# Altium integrated library Free Documents.IntLib: 21 symbols
Pins are listed as number, name and electrical type; pins without a type are passive.

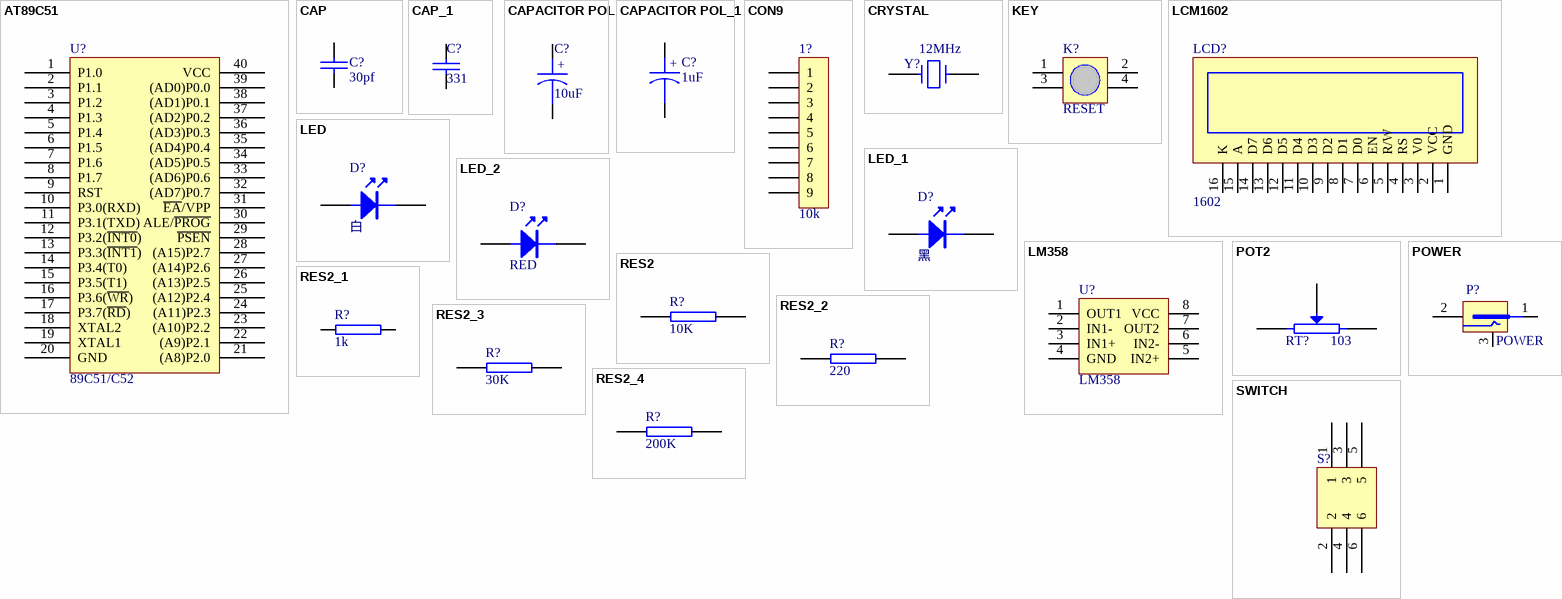
[diagram p0: symbols AT89C51 to SWITCH]

## AT89C51
designator U?, comment 89C51/C52
footprint DIP40
pins: 1 P1.0, 2 P1.1, 3 P1.2, 4 P1.3, 5 P1.4, 6 P1.5, 7 P1.6, 8 P1.7, 9 RST, 10 P3.0(RXD), 11 P3.1(TXD), 12 P3.2(~{INT0}), 13 P3.3(~{INT1}), 14 P3.4(T0), 15 P3.5(T1), 16 P3.6(~{WR}), 17 P3.7(~{RD}), 18 XTAL2, 19 XTAL1, 20 GND, 21 (A8)P2.0, 22 (A9)P2.1, 23 (A10)P2.2, 24 (A11)P2.3, 25 (A12)P2.4, 26 (A13)P2.5, 27 (A14)P2.6, 28 (A15)P2.7, 29 ~{PSEN}, 30 ALE/~{PROG}, 31 ~{EA}/VPP, 32 (AD7)P0.7, 33 (AD6)P0.6, 34 (AD5)P0.5, 35 (AD4)P0.4, 36 (AD3)P0.3, 37 (AD2)P0.2, 38 (AD1)P0.1, 39 (AD0)P0.0, 40 VCC

## CAP
designator C?, comment 30pf
Capacitor
footprint CB1
pins: 1, 2

## CAP_1
designator C?, comment 331
Capacitor
footprint CB1
pins: 1, 2

## CAPACITOR POL
designator C?, comment 10uF
Capacitor
footprint CD4
pins: 1, 2
text: +

## CAPACITOR POL_1
designator C?, comment 1uF
Capacitor
footprint CD4
pins: 1, 2
text: +

## CON9
designator 1?, comment 10k
Connector
footprint SIP9
pins: 1, 2, 3, 4, 5, 6, 7, 8, 9

## CRYSTAL
designator Y?, comment 12MHz
Crystal
footprint JZ
pins: 1, 2

## KEY
designator K?, comment RESET
footprint SW2
pins: 1, 2, 3, 4

## LCM1602
designator LCD?, comment 1602
footprint SIP16
pins: 1 GND, 2 VCC, 3 V0, 4 RS, 5 R/W, 6 EN, 7 D0, 8 D1, 9 D2, 10 D3, 11 D4, 12 D5, 13 D6, 14 D7, 15 A, 16 K

## LED
designator D?, comment 白
footprint LED5
pins: A 1, K 2

## LED_1
designator D?, comment 黑
footprint LED5
pins: A 1, K 2

## LED_2
designator D?, comment RED
footprint LED5
pins: A 1, K 2

## LM358
designator U?
pins: 1 OUT1, 2 IN1-, 3 IN1+, 4 GND, 5 IN2+, 6 IN2-, 7 OUT2, 8 VCC

## POT2
designator RT?, comment 103
Potentiometer
pins: 1, 2, 3 W

## POWER
designator P?
footprint POWER
footprint DC2.1
pins: 1, 2, 3

## RES2
designator R?, comment 10K
footprint 1/4W
pins: 1, 2

## RES2_1
designator R?, comment 1k
footprint 1/4W
pins: 1, 2

## RES2_2
designator R?, comment 220
footprint 1/4W
pins: 1, 2

## RES2_3
designator R?, comment 30K
footprint 1/4W
pins: 1, 2

## RES2_4
designator R?, comment 200K
footprint 1/4W
pins: 1, 2

## SWITCH
designator S?
SWITCH
footprint SWITCH
footprint SW6
pins: 1, 2, 3, 4, 5, 6